# Altium schematic symbol library RFX2401C.SchLib: 1 symbol
Pins are listed as number, name and electrical type; pins without a type are passive.

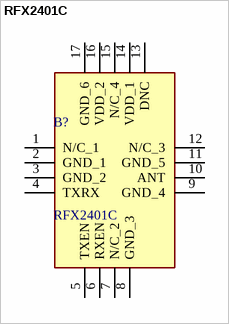
[diagram p0: symbol RFX2401C]

## RFX2401C
designator B?
RF Front End 2.4GHz ZigBee/ISM RFeIC PA+LNA+SPDT; Manufacturer_Name: Skyworks; Geometry.Height: 0.6mm; Manufacturer_Part_Number: RFX2401C; Mouser Part Number: 477-RFX2401C; Mouser Price/Stock: https://www.mouser.co.uk/ProductDetail/Skyworks-Solutions-Inc/RFX2401C?qs=dBWc1juS%252B3ydEXrKsuxQ7A%3D%3D; Arrow Part Number: RFX2401C; Arrow Price/Stock: https://www.arrow.com/en/products/rfx2401c/skyworks-solutions?utm_currency=USD&region=nac; Datasheet Link: https://eu.mouser.com/datasheet/2/472/RFX2401C_204359B-1524606.pdf
footprint QFN50P300X300X60-17N-D
pins: 1 N/C_1, 2 GND_1, 3 GND_2, 4 TXRX, 5 TXEN, 6 RXEN, 7 N/C_2, 8 GND_3, 9 GND_4, 10 ANT, 11 GND_5, 12 N/C_3, 13 DNC, 14 VDD_1, 15 N/C_4, 16 VDD_2, 17 GND_6